# EAGLE library part MAX487 (library rs232-rs485)
RS485 TRANSEIVER
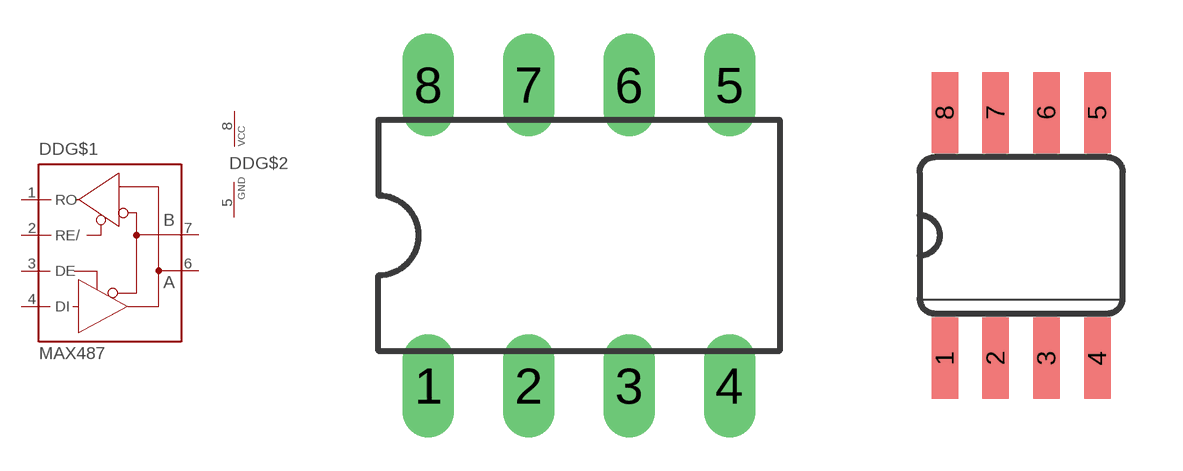
[diagram p3: symbol with the pads of DIL08; footprints DIL08, SO08]

Designator prefix DD; gates G$1=MAX481 G$2=VCC-GND

## MAX487-P  [DIL08]
1  G$1:RO  out
2  G$1:RE/  in
3  G$1:DE  in
4  G$1:DI  in
5  G$2:GND  pwr
6  G$1:A  pas
7  G$1:B  pas
8  G$2:VCC  pwr

## MAX487-S  [SO08]
Pads as for DIL08

## Footprint DIL08 (pad centres in mm)
Dual In Line Package
drill 0.8 long: 1 -3.81,-3.81; 2 -1.27,-3.81; 3 1.27,-3.81; 4 3.81,-3.81; 5 3.81,3.81; 6 1.27,3.81; 7 -1.27,3.81; 8 -3.81,3.81

## Footprint SO08 (pad centres in mm)
Small Outline Package
smd 0.66 x 2.032: 1 -1.905,-3.073; 2 -0.635,-3.073; 3 0.635,-3.073; 4 1.905,-3.073; 5 1.905,3.073; 6 0.635,3.073; 7 -0.635,3.073; 8 -1.905,3.073